# Altium schematic symbol library PIC24FJxxGA104.Schlib: 1 symbol
Pins are listed as number, name and electrical type; pins without a type are passive.

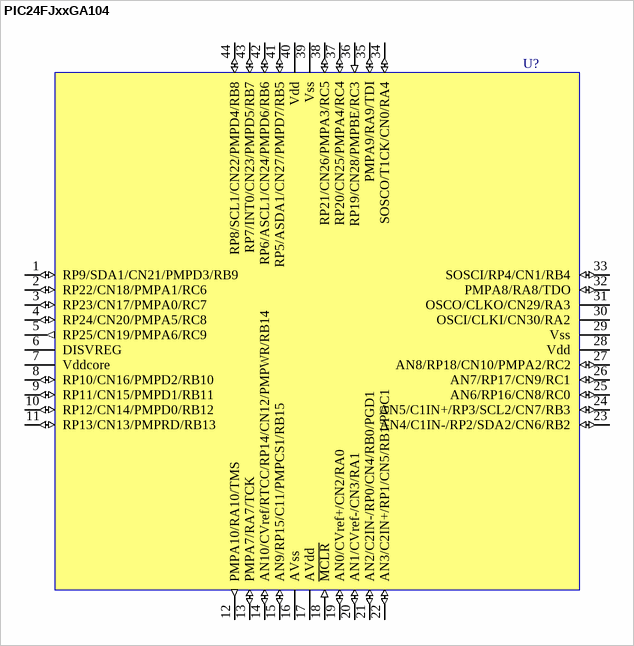
[diagram p0: symbol PIC24FJxxGA104]

## PIC24FJxxGA104
designator U?
IC, Microcontroller
pins: 1 RP9/SDA1/CN21/PMPD3/RB9 (io), 2 RP22/CN18/PMPA1/RC6 (io), 3 RP23/CN17/PMPA0/RC7 (io), 4 RP24/CN20/PMPA5/RC8 (io), 5 RP25/CN19/PMPA6/RC9 (out), 6 DISVREG (power), 7 Vddcore, 8 RP10/CN16/PMPD2/RB10 (io), 9 RP11/CN15/PMPD1/RB11 (io), 10 RP12/CN14/PMPD0/RB12 (io), 11 RP13/CN13/PMPRD/RB13 (io), 12 PMPA10/RA10/TMS (out), 13 PMPA7/RA7/TCK (io), 14 AN10/CVref/RTCC/RP14/CN12/PMPWR/RB14 (io), 15 AN9/RP15/C11/PMPCS1/RB15 (io), 16 AVss (power), 17 AVdd (power), 18 ~{MCLR} (in), 19 AN0/CVref+/CN2/RA0 (io), 20 AN1/CVref-/CN3/RA1 (io), 21 AN2/C2IN-/RP0/CN4/RB0/PGD1 (io), 22 AN3/C2IN+/RP1/CN5/RB1/PGC1 (io), 23 AN4/C1IN-/RP2/SDA2/CN6/RB2 (io), 24 AN5/C1IN+/RP3/SCL2/CN7/RB3 (io), 25 AN6/RP16/CN8/RC0 (io), 26 AN7/RP17/CN9/RC1 (io), 27 AN8/RP18/CN10/PMPA2/RC2 (io), 28 Vdd (power), 29 Vss (power), 30 OSCI/CLKI/CN30/RA2, 31 OSCO/CLKO/CN29/RA3, 32 PMPA8/RA8/TDO (io), 33 SOSCI/RP4/CN1/RB4 (io), 34 SOSCO/T1CK/CN0/RA4 (io), 35 PMPA9/RA9/TDI (io), 36 RP19/CN28/PMPBE/RC3 (in), 37 RP20/CN25/PMPA4/RC4 (io), 38 RP21/CN26/PMPA3/RC5 (io), 39 Vss (power), 40 Vdd (power), 41 RP5/ASDA1/CN27/PMPD7/RB5 (io), 42 RP6/ASCL1/CN24/PMPD6/RB6 (io), 43 RP7/INT0/CN23/PMPD5/RB7 (io), 44 RP8/SCL1/CN22/PMPD4/RB8 (io)
8 alternate drawings of the same symbol